# Altium footprint library WS-DESU.PcbLib: 1 footprints
Each footprint in its own frame and in the unit in brackets; x right, y up, seen from the top. Pads: shape width x height; smd on the part's side, far side on the other; paste and mask are expansions set on the pad; w line width, h text height; cw(c..) or ccw(c..) is an arc to the next point about the centre after c.
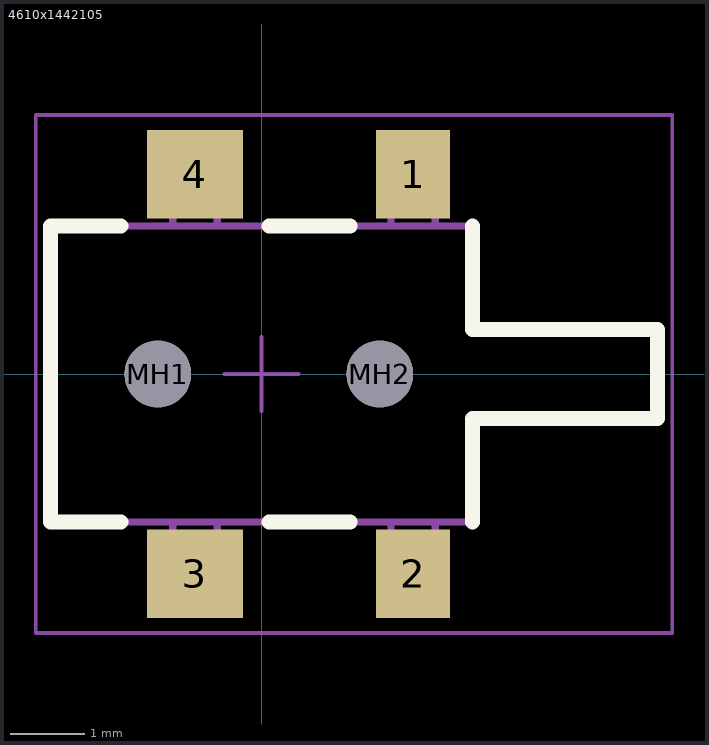
[diagram p0: the footprint, top view; thin cyan lines are the x and y axes]

## 4610x1442105 [mm] "Side Push SMD Detector Switch, body 5.7x4mm"
height 2
pads (6):
  rect 1x1.2 smd: 1(2.05,2.7) 2(2.05,-2.7)
  rect 1.3x1.2 smd: 3(-0.9,-2.7) 4(-0.9,2.7)
  round 0.9 hole 0.9 unplated: MH1(-1.4,0) MH2(1.6,0)
Top Overlay:
  lines w0.2: -1.9,-2 -2.85,-2 -2.85,2 -1.9,2 ; 0.1,-2 1.2,-2 ; 0.1,2 1.2,2 ; 2.85,-2 2.85,-0.6 5.35,-0.6 5.35,0.6 2.85,0.6 2.85,2
Top Designator:
  text ".Designator" at -7.498,-0.5 h1.5
Top Component Outline:
  lines w0.1: -1.2,-2 -1.2,-2.7 -0.6,-2.7 -0.6,-2 ; -1.2,2 -1.2,2.7 -0.6,2.7 -0.6,2 ; 1.75,-2 1.75,-2.7 2.35,-2.7 2.35,-2 ; 1.75,2 1.75,2.7 2.35,2.7 2.35,2 ; -2.85,-2 2.85,-2 2.85,-0.6 5.35,-0.6 5.35,0.6 2.85,0.6 2.85,2 -2.85,2 -2.85,-2
Top Courtyard:
  lines w0.05: -0.5,0 0.5,0 ; 0,-0.5 0,0.5 ; -3.05,-3.5 -3.05,3.5 5.55,3.5 5.55,-3.5 -3.05,-3.5
3D body "461011442105.stp": height 2, standoff -0.6, extent -2.85,-2.7 5.35,2.7